# EAGLE library part NOKIA (library IRTHERM)
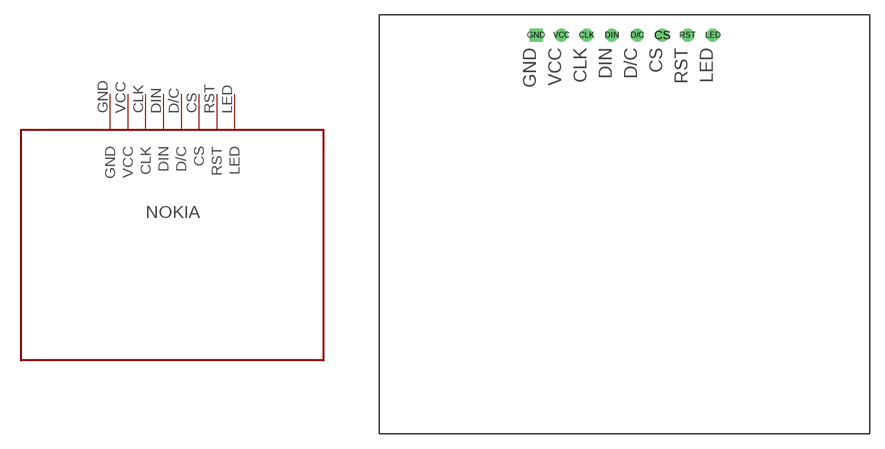
[diagram p0: symbol with the pads of NOKIA; footprint NOKIA]

Designator prefix -

## NOKIA  [NOKIA]
CLK  CLK
CS  CS
D/C  D/C
DIN  DIN
GND  GND
LED  LED
RST  RST
VCC  VCC

## Footprint NOKIA (pad centres in mm)
drill 0.8: CLK -3.81,19.05; CS 3.81,19.05; D/C 1.27,19.05; DIN -1.27,19.05; LED 8.89,19.05; RST 6.35,19.05; VCC -6.35,19.05
drill 0.8 square: GND -8.89,19.05